# EAGLE library part NEO-M8N (library GPS-power)
NEO-M8N MINI https://www.gnss.store/gnss-gps-modules/85-ublox-mini-neo-m8n-gps-gnss-lis3mdl-compass-triple-band-ant.html
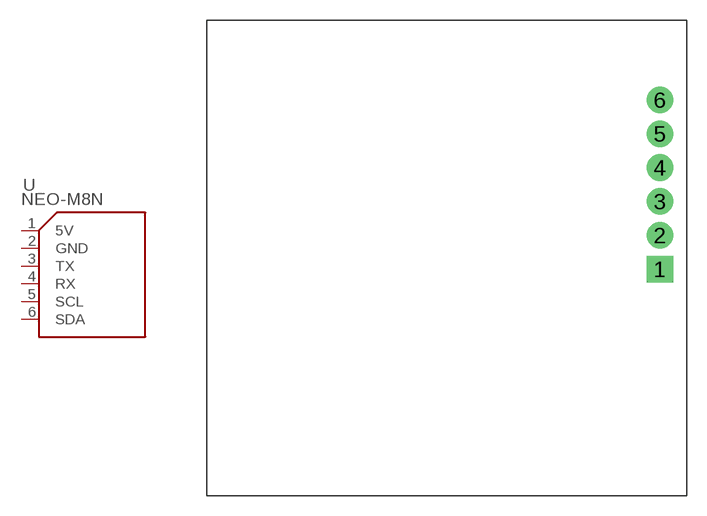
[diagram p2: symbol with the pads of NEO-M8N; footprint NEO-M8N]

Designator prefix -

## NEO-M8N  [NEO-M8N]
1  5V
2  GND
3  TX
4  RX
5  SCL
6  SDA

## Footprint NEO-M8N (pad centres in mm)
NEO-M8N MINI https://www.gnss.store/gnss-gps-modules/85-ublox-mini-neo-m8n-gps-gnss-lis3mdl-compass-triple-band-ant.html
drill 1.04 pad 2 square: 1 0,0
drill 1.02 pad 2: 2 0,2.54; 3 0,5.08; 4 0,7.62; 5 0,10.16; 6 0,12.7